# EAGLE library part TC2050-IDC-NL (library imu)
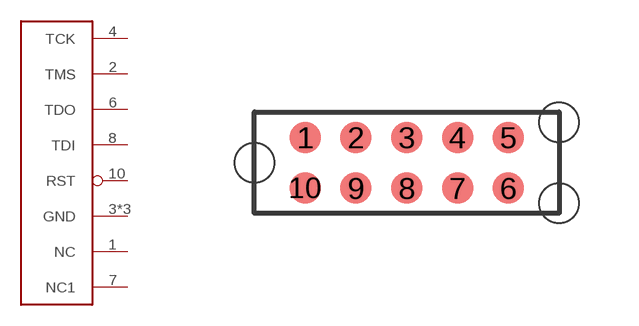
[diagram p5: symbol with the pads of TC2050-IDC-NL; footprint TC2050-IDC-NL]

Designator prefix -

## TC2050-IDC-NL  [TC2050-IDC-NL]
1  NC
2  TMS
3  GND
4  TCK
5  GND
6  TDO
7  NC1
8  TDI
9  GND
10  RST

## Footprint TC2050-IDC-NL (pad centres in mm)
smd 0.787 x 0.787: 1 1.27,0.635; 2 2.54,0.635; 3 3.81,0.635; 4 5.08,0.635; 5 6.35,0.635; 6 6.35,-0.635; 7 5.08,-0.635; 8 3.81,-0.635; 9 2.54,-0.635; 10 1.27,-0.635
hole 0.991 at 0,0
hole 0.991 at 7.62,1.015
hole 0.991 at 7.62,-1.015